# EAGLE library part SWITCH-DPTT (library act-global-nolan)
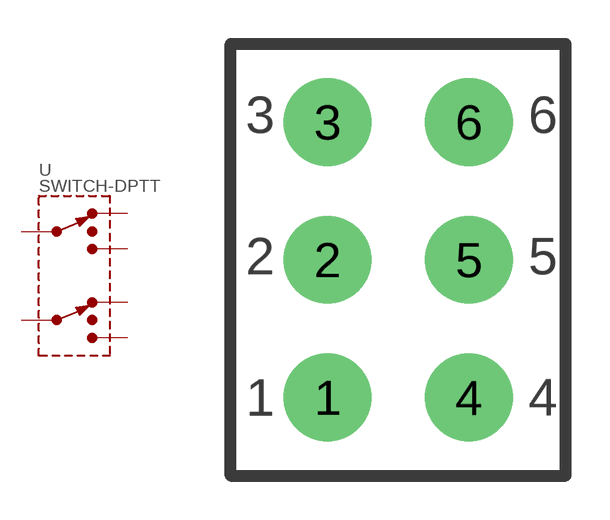
[diagram p12: symbol with the pads of SWITCH-DTTT; footprint SWITCH-DTTT]

Designator prefix -

## SWITCH-DPTT  [SWITCH-DTTT]
1  1
2  2
3  3
4  4
5  5
6  6

## Footprint SWITCH-DTTT (pad centres in mm)
drill 2: 1 -2.413,-4.699; 2 -2.413,0; 3 -2.413,4.699; 4 2.413,-4.699; 5 2.413,0; 6 2.413,4.699